# Altium schematic symbol library ADCLK905.SchLib: 1 symbol
Pins are listed as number, name and electrical type; pins without a type are passive.

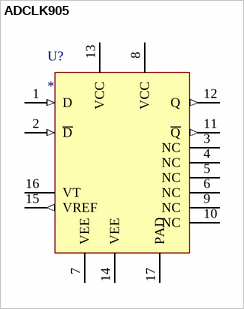
[diagram p0: symbol ADCLK905]

## ADCLK905
designator U?
Single Ultrafast SiGe Clock/Data Buffer
pins: 1 D (in), 2 ~{D} (in), 3 NC, 4 NC, 5 NC, 6 NC, 7 VEE (power), 8 VCC (power), 9 NC, 10 NC, 11 ~{Q} (out), 12 Q (out), 13 VCC (power), 14 VEE (power), 15 VREF (out), 16 VT "Center Tap of 100ohm input resistor", 17 PAD